# Altium schematic symbol library MAX3485ECSA.SchLib: 1 symbol
Pins are listed as number, name and electrical type; pins without a type are passive.

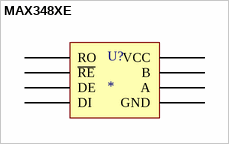
[diagram p0: symbol MAX348XE]

## MAX348XE
designator U?
Digi-Key Part Number: MAX3485ECSA+-ND
pins: 1 RO, 2 ~{RE}, 3 DE, 4 DI, 5 GND, 6 A, 7 B, 8 VCC